# Altium footprint library ADP_DIP.PcbLib: 24 footprints (part 2 of 2)
Each footprint in its own frame and in the unit in brackets; x right, y up, seen from the top. Pads: shape width x height; smd on the part's side, far side on the other; paste and mask are expansions set on the pad; w line width, h text height; cw(c..) or ccw(c..) is an arc to the next point about the centre after c.
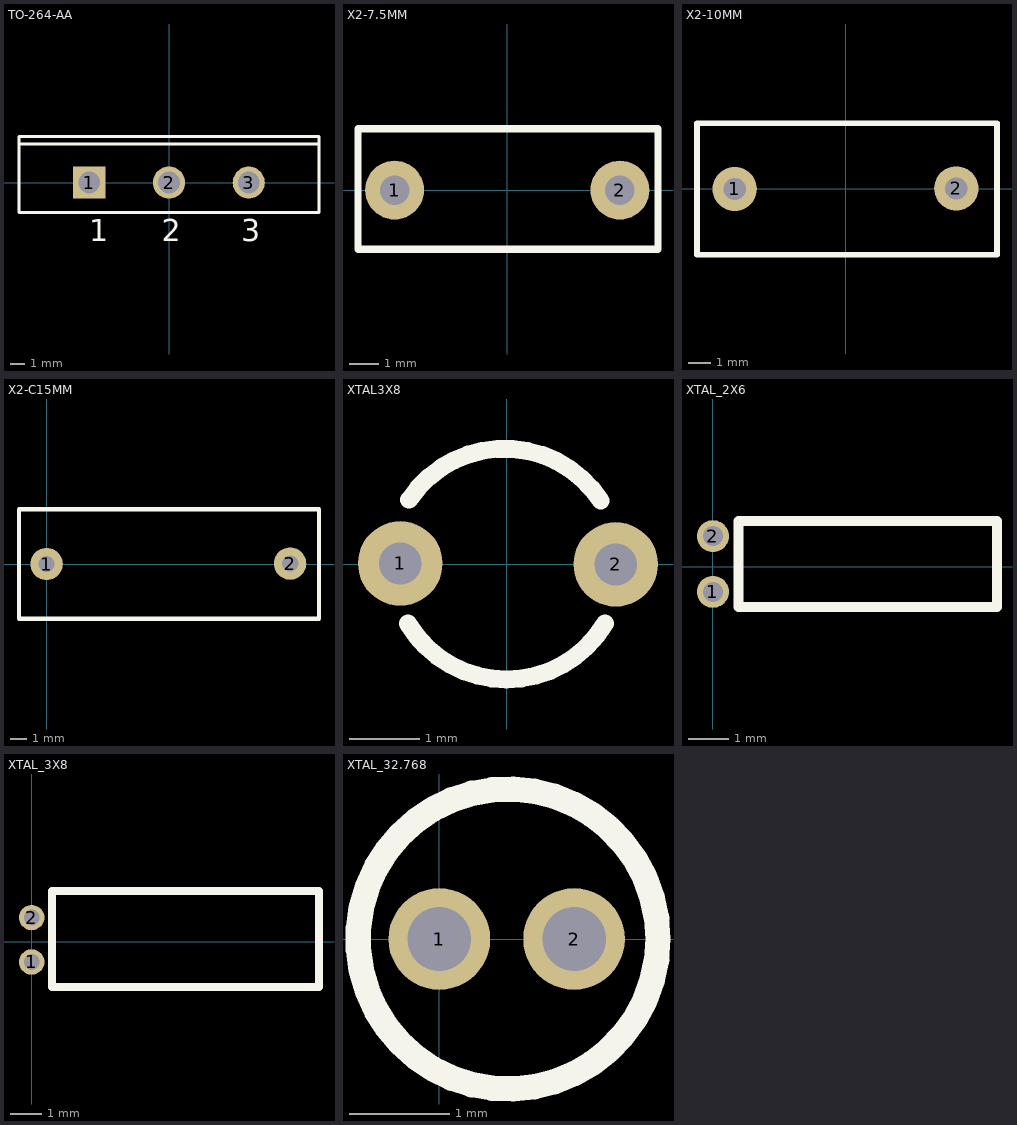
[diagram p1: the footprints below, top view; thin cyan lines are the x and y axes]

## TO-264-AA [mm] "SIP with Mounting Hole; 3 Leads; Body 26 x 20 x 5 mm (typ); Pitch 5.45 mm"
height 29
pads (3):
  rect 2.2x2.2 hole 1.5: 1(-5.45,0)
  round 2.2 hole 1.5: 2(0,0) 3(5.45,0)
Top Overlay:
  lines w0.2: -10.25,2.65 10.25,2.65 ; -10.25,-2.05 10.25,-2.05 10.25,3.15 -10.25,3.15 -10.25,-2.05
  text "1" at -5.45,-4.025 h1.5
  text "2" at -0.508,-4.025 h1.5
  text "3" at 4.942,-4.025 h1.5
3D body "to264.STEP": height 34, standoff -5, extent -10.025,-2.712 9.975,2.388

## X2-7.5MM [mm]
pads (2):
  round 2 hole 1: 1(-3.823,0) 2(3.823,0)
Top Overlay:
  lines w0.254: -5.067,-2.007 5.118,-2.007 5.118,2.083 -5.067,2.083 -5.067,-2.007
3D body "10MM_X2_cap.step": height 9.5, standoff -3, extent -4.966,-1.956 5.034,2.044

## X2-10MM [mm] "18.25MM*11.4MM*5.78MM0.1UF 脚距15MM"
pads (2):
  round 2 hole 1: 1(-5,-0.013) 2(5,0.013)
Top Overlay:
  lines w0.254: -6.702,-2.984 -6.702,2.959 6.836,2.959 6.836,-2.984 -6.702,-2.984
3D body "X2-10MM.step": height 12, standoff -2.81, extent -6.5,-2.489 6.5,2.512

## X2-C15MM [mm] "18.25MM*11.4MM*5.78MM0.1UF 脚距15MM"
pads (2):
  round 2 hole 1: 1(0,0) 2(15.011,0.025)
Top Overlay:
  lines w0.254: -1.702,-3.378 16.789,-3.378 16.789,3.378 -1.702,3.378 -1.702,-3.378
3D body "X2-15MM.step": height 14, standoff -2.81, extent -1.431,-3.496 16.569,3.505

## XTAL3X8 [mm]
pads (2):
  round 1.2 hole 0.6: 1(-1.509,0.013) 2(1.55,0)
Top Overlay:
  lines w0.254: -1.4,-0.841 ccw(c-0.002,-0.002) 1.398,-0.839 ; -1.386,0.917 cw(c-0.029,0.013) 1.337,0.903
3D body "User Library-Crystal TH_.STEP": height 9.28, standoff -1.5, extent -1.707,-1.586 1.743,1.614

## XTAL_2X6 [mm]
pads (2):
  round 0.8 hole 0.5: 1(0,-0.635) 2(0,0.762)
Top Overlay:
  lines w0.254: 0.635,-1.016 0.635,1.143 7.112,1.143 7.112,-1.016 0.635,-1.016
3D body: height 2, standoff 0, extent 0.912,-0.94 6.912,1.052

## XTAL_3X8 [mm]
pads (2):
  round 0.8 hole 0.5: 1(0,-0.635) 2(0,0.762)
Top Overlay:
  lines w0.254: 0.635,-1.422 0.635,1.6 9.042,1.6 9.042,-1.422 0.635,-1.422
3D body: height 3, standoff 0, extent 0.912,-1.436 8.912,1.552

## XTAL_32.768 [mil] "32.768k柱式晶振（未加焊）"
height 314.96
pads (2):
  round 40 hole 25: 1(0,0) 2(53,0)
Top Overlay:
  circle w10: c27,0 r59
3D body "CRYSTAL_N.stp": height 354.33, standoff -118.11, extent -32.87,-59.06 85.24,59.06